# Altium schematic symbol library LDO_MIC5209.SchLib: 1 symbol
Pins are listed as number, name and electrical type; pins without a type are passive.

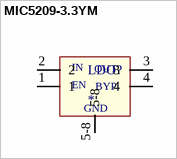
[diagram p0: symbol MIC5209-3.3YM]

## MIC5209-3.3YM
designator LDO?
Microchip Technology 8SOIC IC REG LINEAR 3.3V 500MA
pins: 1 "EN", 2 "IN", 3 "OUT", 4 "BYP", 5-8 "GND"
text: IN; OUT; BYP; EN; GND